# Altium schematic symbol library SCH - MCU - ATMEGA - MICROCHIP ATMEGA324PB-ANR TQFP44.SchLib: 1 symbol
Pins are listed as number, name and electrical type; pins without a type are passive.

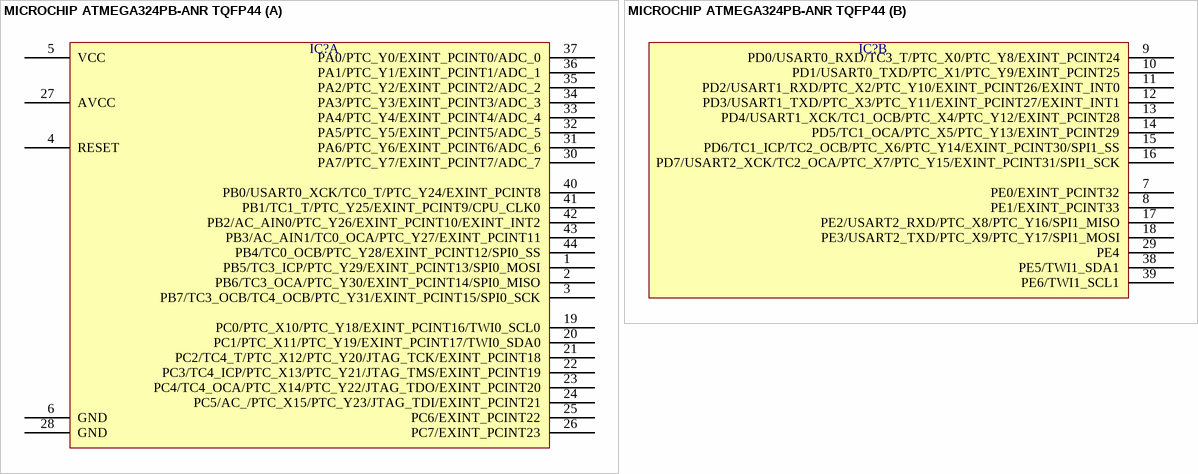
[diagram p0: symbol MICROCHIP ATMEGA324PB-ANR TQFP44]

## MICROCHIP ATMEGA324PB-ANR TQFP44
designator IC?  (value not drawn)
part A pins: 1 PB5/TC3_ICP/PTC_Y29/EXINT_PCINT13/SPI0_MOSI, 2 PB6/TC3_OCA/PTC_Y30/EXINT_PCINT14/SPI0_MISO, 3 PB7/TC3_OCB/TC4_OCB/PTC_Y31/EXINT_PCINT15/SPI0_SCK, 4 RESET, 5 VCC, 6 GND, 19 PC0/PTC_X10/PTC_Y18/EXINT_PCINT16/TWI0_SCL0, 20 PC1/PTC_X11/PTC_Y19/EXINT_PCINT17/TWI0_SDA0, 21 PC2/TC4_T/PTC_X12/PTC_Y20/JTAG_TCK/EXINT_PCINT18, 22 PC3/TC4_ICP/PTC_X13/PTC_Y21/JTAG_TMS/EXINT_PCINT19, 23 PC4/TC4_OCA/PTC_X14/PTC_Y22/JTAG_TDO/EXINT_PCINT20, 24 PC5/AC_/PTC_X15/PTC_Y23/JTAG_TDI/EXINT_PCINT21, 25 PC6/EXINT_PCINT22, 26 PC7/EXINT_PCINT23, 27 AVCC, 28 GND, 30 PA7/PTC_Y7/EXINT_PCINT7/ADC_7, 31 PA6/PTC_Y6/EXINT_PCINT6/ADC_6, 32 PA5/PTC_Y5/EXINT_PCINT5/ADC_5, 33 PA4/PTC_Y4/EXINT_PCINT4/ADC_4, 34 PA3/PTC_Y3/EXINT_PCINT3/ADC_3, 35 PA2/PTC_Y2/EXINT_PCINT2/ADC_2, 36 PA1/PTC_Y1/EXINT_PCINT1/ADC_1, 37 PA0/PTC_Y0/EXINT_PCINT0/ADC_0, 40 PB0/USART0_XCK/TC0_T/PTC_Y24/EXINT_PCINT8, 41 PB1/TC1_T/PTC_Y25/EXINT_PCINT9/CPU_CLK0, 42 PB2/AC_AIN0/PTC_Y26/EXINT_PCINT10/EXINT_INT2, 43 PB3/AC_AIN1/TC0_OCA/PTC_Y27/EXINT_PCINT11, 44 PB4/TC0_OCB/PTC_Y28/EXINT_PCINT12/SPI0_SS
part B pins: 7 PE0/EXINT_PCINT32, 8 PE1/EXINT_PCINT33, 9 PD0/USART0_RXD/TC3_T/PTC_X0/PTC_Y8/EXINT_PCINT24, 10 PD1/USART0_TXD/PTC_X1/PTC_Y9/EXINT_PCINT25, 11 PD2/USART1_RXD/PTC_X2/PTC_Y10/EXINT_PCINT26/EXINT_INT0, 12 PD3/USART1_TXD/PTC_X3/PTC_Y11/EXINT_PCINT27/EXINT_INT1, 13 PD4/USART1_XCK/TC1_OCB/PTC_X4/PTC_Y12/EXINT_PCINT28, 14 PD5/TC1_OCA/PTC_X5/PTC_Y13/EXINT_PCINT29, 15 PD6/TC1_ICP/TC2_OCB/PTC_X6/PTC_Y14/EXINT_PCINT30/SPI1_SS, 16 PD7/USART2_XCK/TC2_OCA/PTC_X7/PTC_Y15/EXINT_PCINT31/SPI1_SCK, 17 PE2/USART2_RXD/PTC_X8/PTC_Y16/SPI1_MISO, 18 PE3/USART2_TXD/PTC_X9/PTC_Y17/SPI1_MOSI, 29 PE4, 38 PE5/TWI1_SDA1, 39 PE6/TWI1_SCL1